# EAGLE library part EEPROM_SPI_AT25040A (library microbuilder)
AT25010a/40a EEPROM SOIC8 AT25010a, 1K (128 x 8 bit) - Digikey: AT25010AN-10SU2.7-ND AT25040a, 4K (256 x 8 bit) - Digikey: AT25040AN-10SU1.8-ND TSSOP8 AT25010a, 1K (128 x 8 bit) - Digikey: AT25010A-10TU-1.8-ND AT25040a, 4K (256 x 8 bit) - Digikey: AT25040A-10TU-1.8-ND
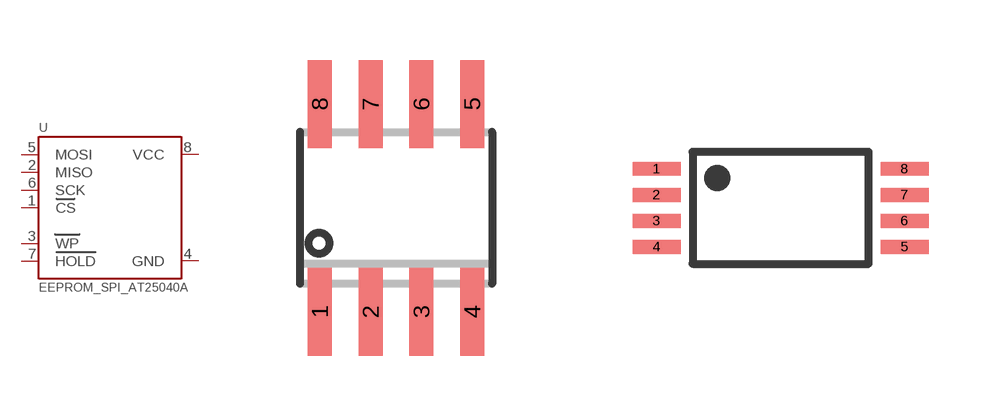
[diagram p51: symbol with the pads of SOIC8_150MIL; footprints SOIC8_150MIL, TSSOP8-4.4MM]

Designator prefix U

## EEPROM_SPI_AT25040A  [SOIC8_150MIL]
1  CS
2  MISO
3  WP
4  GND  pwr
5  MOSI
6  SCK
7  HOLD
8  VCC  pwr

## EEPROM_SPI_AT25040ATSSOP  [TSSOP8-4.4MM]
Pads as for SOIC8_150MIL

## Footprint SOIC8_150MIL (pad centres in mm)
Small Outline IC - 150mil Wide
smd 0.6 x 2.2: 1 -1.905,-2.6; 2 -0.635,-2.6; 3 0.635,-2.6; 4 1.905,-2.6; 5 1.905,2.6; 6 0.635,2.6; 7 -0.635,2.6; 8 -1.905,2.6

## Footprint TSSOP8-4.4MM (pad centres in mm)
Thin Shrink Small Outline Package 0.65mm Pitch, 4.4mm x 3.0mm Body
smd 1.2 x 0.35: 1 -3.1,0.975; 2 -3.1,0.325; 3 -3.1,-0.325; 4 -3.1,-0.975; 5 3.1,-0.975; 6 3.1,-0.325; 7 3.1,0.325; 8 3.1,0.975